# EAGLE library part XCV800ES_FG676 (library xilinx-xcv)
xcv800es_fg676 edit this description Auto generated by make-symbol-device-package-bsdl.ulp Rev. 26 Source: xcv800es_fg676.bsd
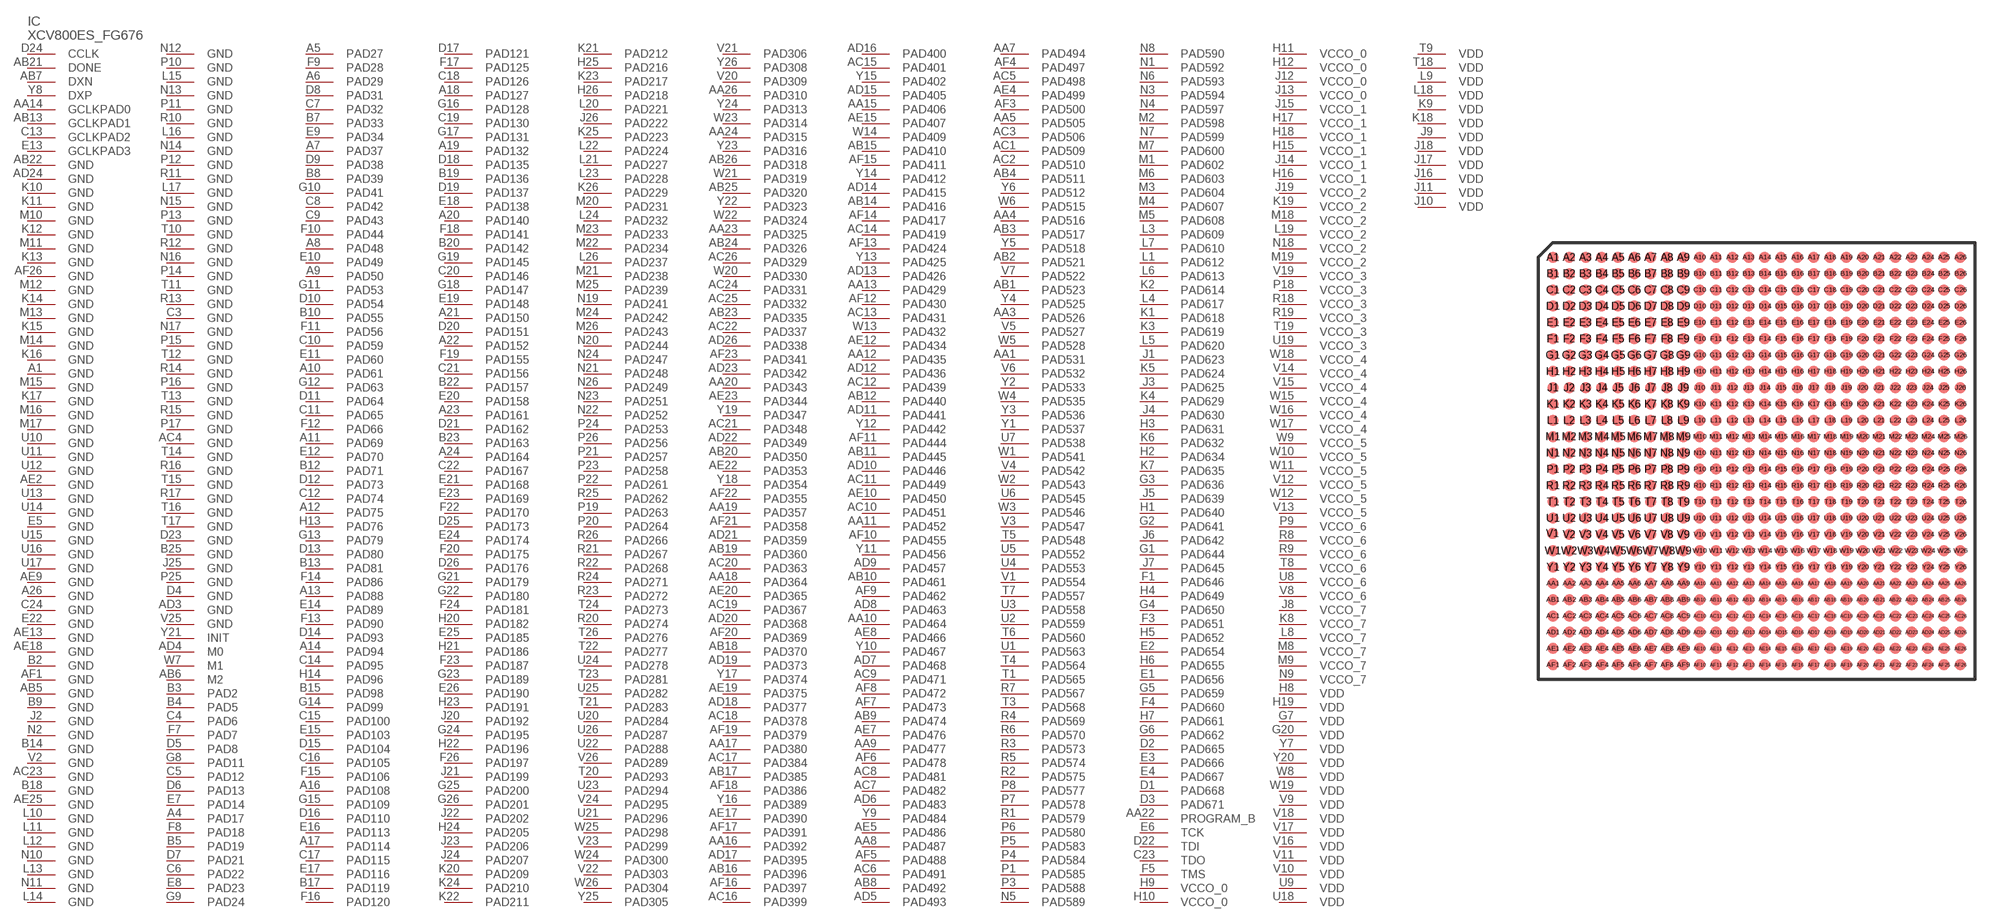
[diagram p134: symbol with the pads of FG676; footprint FG676]

Designator prefix IC

## XCV800ES_FG676 (OC_FARNELL: unknown; OC_NEWARK: unknown)  [FG676]
A1  GND  pwr
A4  PAD17
A5  PAD27
A6  PAD29
A7  PAD37
A8  PAD48
A9  PAD50
A10  PAD61
A11  PAD69
A12  PAD75
A13  PAD88
A14  PAD94
A16  PAD108
A17  PAD114
A18  PAD127
A19  PAD132
A20  PAD140
A21  PAD150
A22  PAD152
A23  PAD161
A24  PAD164
A26  GND  pwr
AA1  PAD531
AA3  PAD526
AA4  PAD516
AA5  PAD505
AA7  PAD494
AA8  PAD487
AA9  PAD477
AA10  PAD464
AA11  PAD452
AA12  PAD435
AA13  PAD429
AA14  GCLKPAD0  in
AA15  PAD406
AA16  PAD392
AA17  PAD380
AA18  PAD364
AA19  PAD357
AA20  PAD343
AA22  PROGRAM_B  in
AA23  PAD325
AA24  PAD315
AA26  PAD310
AB1  PAD523
AB2  PAD521
AB3  PAD517
AB4  PAD511
AB5  GND  pwr
AB6  M2  in
AB7  DXN  pas
AB8  PAD492
AB9  PAD474
AB10  PAD461
AB11  PAD445
AB12  PAD440
AB13  GCLKPAD1  in
AB14  PAD416
AB15  PAD410
AB16  PAD396
AB17  PAD385
AB18  PAD370
AB19  PAD360
AB20  PAD350
AB21  DONE
AB22  GND  pwr
AB23  PAD335
AB24  PAD326
AB25  PAD320
AB26  PAD318
AC1  PAD509
AC2  PAD510
AC3  PAD506
AC4  GND  pwr
AC5  PAD498
AC6  PAD491
AC7  PAD482
AC8  PAD481
AC9  PAD471
AC10  PAD451
AC11  PAD449
AC12  PAD439
AC13  PAD431
AC14  PAD419
AC15  PAD401
AC16  PAD399
AC17  PAD384
AC18  PAD378
AC19  PAD367
AC20  PAD363
AC21  PAD348
AC22  PAD337
AC23  GND  pwr
AC24  PAD331
AC25  PAD332
AC26  PAD329
AD3  GND  pwr
AD4  M0  in
AD5  PAD493
AD6  PAD483
AD7  PAD468
AD8  PAD463
AD9  PAD457
AD10  PAD446
AD11  PAD441
AD12  PAD436
AD13  PAD426
AD14  PAD415
AD15  PAD405
AD16  PAD400
AD17  PAD395
AD18  PAD377
AD19  PAD373
AD20  PAD368
AD21  PAD359
AD22  PAD349
AD23  PAD342
AD24  GND  pwr
AD26  PAD338
AE2  GND  pwr
AE4  PAD499
AE5  PAD486
AE7  PAD476
AE8  PAD466
AE9  GND  pwr
AE10  PAD450
AE12  PAD434
AE13  GND  pwr
AE15  PAD407
AE17  PAD390
AE18  GND  pwr
AE19  PAD375
AE20  PAD365
AE22  PAD353
AE23  PAD344
AE25  GND  pwr
AF1  GND  pwr
AF3  PAD500
AF4  PAD497
AF5  PAD488
AF6  PAD478
AF7  PAD473
AF8  PAD472
AF9  PAD462
AF10  PAD455
AF11  PAD444
AF12  PAD430
AF13  PAD424
AF14  PAD417
AF15  PAD411
AF16  PAD397
AF17  PAD391
AF18  PAD386
AF19  PAD379
AF20  PAD369
AF21  PAD358
AF22  PAD355
AF23  PAD341
AF26  GND  pwr
B2  GND  pwr
B3  PAD2
B4  PAD5
B5  PAD19
B7  PAD33
B8  PAD39
B9  GND  pwr
B10  PAD55
B12  PAD71
B13  PAD81
B14  GND  pwr
B15  PAD98
B17  PAD119
B18  GND  pwr
B19  PAD136
B20  PAD142
B22  PAD157
B23  PAD163
B25  GND  pwr
C3  GND  pwr
C4  PAD6
C5  PAD12
C6  PAD22
C7  PAD32
C8  PAD42
C9  PAD43
C10  PAD59
C11  PAD65
C12  PAD74
C13  GCLKPAD2  in
C14  PAD95
C15  PAD100
C16  PAD105
C17  PAD115
C18  PAD126
C19  PAD130
C20  PAD146
C21  PAD156
C22  PAD167
C23  TDO  out
C24  GND  pwr
D1  PAD668
D2  PAD665
D3  PAD671
D4  GND  pwr
D5  PAD8
D6  PAD13
D7  PAD21
D8  PAD31
D9  PAD38
D10  PAD54
D11  PAD64
D12  PAD73
D13  PAD80
D14  PAD93
D15  PAD104
D16  PAD110
D17  PAD121
D18  PAD135
D19  PAD137
D20  PAD151
D21  PAD162
D22  TDI  in
D23  GND  pwr
D24  CCLK
D25  PAD173
D26  PAD176
E1  PAD656
E2  PAD654
E3  PAD666
E4  PAD667
E5  GND  pwr
E6  TCK  in
E7  PAD14
E8  PAD23
E9  PAD34
E10  PAD49
E11  PAD60
E12  PAD70
E13  GCLKPAD3  in
E14  PAD89
E15  PAD103
E16  PAD113
E17  PAD116
E18  PAD138
E19  PAD148
E20  PAD158
E21  PAD168
E22  GND  pwr
E23  PAD169
E24  PAD174
E25  PAD185
E26  PAD190
F1  PAD646
F3  PAD651
F4  PAD660
F5  TMS  in
F7  PAD7
F8  PAD18
F9  PAD28
F10  PAD44
F11  PAD56
F12  PAD66
F13  PAD90
F14  PAD86
F15  PAD106
F16  PAD120
F17  PAD125
F18  PAD141
F19  PAD155
F20  PAD175
F22  PAD170
F23  PAD187
F24  PAD181
F26  PAD197
G1  PAD644
G2  PAD641
G3  PAD636
G4  PAD650
G5  PAD659
G6  PAD662
G7  VDD  pwr
G8  PAD11
G9  PAD24
G10  PAD41
G11  PAD53
G12  PAD63
G13  PAD79
G14  PAD99
G15  PAD109
G16  PAD128
G17  PAD131
G18  PAD147
G19  PAD145
G20  VDD  pwr
G21  PAD179
G22  PAD180
G23  PAD189
G24  PAD195
G25  PAD200
G26  PAD201
H1  PAD640
H2  PAD634
H3  PAD631
H4  PAD649
H5  PAD652
H6  PAD655
H7  PAD661
H8  VDD  pwr
H9  VCCO_0  pwr
H10  VCCO_0  pwr
H11  VCCO_0  pwr
H12  VCCO_0  pwr
H13  PAD76
H14  PAD96
H15  VCCO_1  pwr
H16  VCCO_1  pwr
H17  VCCO_1  pwr
H18  VCCO_1  pwr
H19  VDD  pwr
H20  PAD182
H21  PAD186
H22  PAD196
H23  PAD191
H24  PAD205
H25  PAD216
H26  PAD218
J1  PAD623
J2  GND  pwr
J3  PAD625
J4  PAD630
J5  PAD639
J6  PAD642
J7  PAD645
J8  VCCO_7  pwr
J9  VDD  pwr
J10  VDD  pwr
J11  VDD  pwr
J12  VCCO_0  pwr
J13  VCCO_0  pwr
J14  VCCO_1  pwr
J15  VCCO_1  pwr
J16  VDD  pwr
J17  VDD  pwr
J18  VDD  pwr
J19  VCCO_2  pwr
J20  PAD192
J21  PAD199
J22  PAD202
J23  PAD206
J24  PAD207
J25  GND  pwr
J26  PAD222
K1  PAD618
K2  PAD614
K3  PAD619
K4  PAD629
K5  PAD624
K6  PAD632
K7  PAD635
K8  VCCO_7  pwr
K9  VDD  pwr
K10  GND  pwr
K11  GND  pwr
K12  GND  pwr
K13  GND  pwr
K14  GND  pwr
K15  GND  pwr
K16  GND  pwr
K17  GND  pwr
K18  VDD  pwr
K19  VCCO_2  pwr
K20  PAD209
K21  PAD212
K22  PAD211
K23  PAD217
K24  PAD210
K25  PAD223
K26  PAD229
L1  PAD612
L3  PAD609
L4  PAD617
L5  PAD620
L6  PAD613
L7  PAD610
L8  VCCO_7  pwr
L9  VDD  pwr
L10  GND  pwr
L11  GND  pwr
L12  GND  pwr
L13  GND  pwr
L14  GND  pwr
L15  GND  pwr
L16  GND  pwr
L17  GND  pwr
L18  VDD  pwr
L19  VCCO_2  pwr
L20  PAD221
L21  PAD227
L22  PAD224
L23  PAD228
L24  PAD232
L26  PAD237
M1  PAD602
M2  PAD598
M3  PAD604
M4  PAD607
M5  PAD608
M6  PAD603
M7  PAD600
M8  VCCO_7  pwr
M9  VCCO_7  pwr
M10  GND  pwr
M11  GND  pwr
M12  GND  pwr
M13  GND  pwr
M14  GND  pwr
M15  GND  pwr
M16  GND  pwr
M17  GND  pwr
M18  VCCO_2  pwr
M19  VCCO_2  pwr
M20  PAD231
M21  PAD238
M22  PAD234
M23  PAD233
M24  PAD242
M25  PAD239
M26  PAD243
N1  PAD592
N2  GND  pwr
N3  PAD594
N4  PAD597
N5  PAD589
N6  PAD593
N7  PAD599
N8  PAD590
N9  VCCO_7  pwr
N10  GND  pwr
N11  GND  pwr
N12  GND  pwr
N13  GND  pwr
N14  GND  pwr
N15  GND  pwr
N16  GND  pwr
N17  GND  pwr
N18  VCCO_2  pwr
N19  PAD241
N20  PAD244
N21  PAD248
N22  PAD252
N23  PAD251
N24  PAD247
N26  PAD249
P1  PAD585
P3  PAD588
P4  PAD584
P5  PAD583
P6  PAD580
P7  PAD578
P8  PAD577
P9  VCCO_6  pwr
P10  GND  pwr
P11  GND  pwr
P12  GND  pwr
P13  GND  pwr
P14  GND  pwr
P15  GND  pwr
P16  GND  pwr
P17  GND  pwr
P18  VCCO_3  pwr
P19  PAD263
P20  PAD264
P21  PAD257
P22  PAD261
P23  PAD258
P24  PAD253
P25  GND  pwr
P26  PAD256
R1  PAD579
R2  PAD575
R3  PAD573
R4  PAD569
R5  PAD574
R6  PAD570
R7  PAD567
R8  VCCO_6  pwr
R9  VCCO_6  pwr
R10  GND  pwr
R11  GND  pwr
R12  GND  pwr
R13  GND  pwr
R14  GND  pwr
R15  GND  pwr
R16  GND  pwr
R17  GND  pwr
R18  VCCO_3  pwr
R19  VCCO_3  pwr
R20  PAD274
R21  PAD267
R22  PAD268
R23  PAD272
R24  PAD271
R25  PAD262
R26  PAD266
T1  PAD565
T3  PAD568
T4  PAD564
T5  PAD548
T6  PAD560
T7  PAD557
T8  VCCO_6  pwr
T9  VDD  pwr
T10  GND  pwr
T11  GND  pwr
T12  GND  pwr
T13  GND  pwr
T14  GND  pwr
T15  GND  pwr
T16  GND  pwr
T17  GND  pwr
T18  VDD  pwr
T19  VCCO_3  pwr
T20  PAD293
T21  PAD283
T22  PAD277
T23  PAD281
T24  PAD273
T26  PAD276
U1  PAD563
U2  PAD559
U3  PAD558
U4  PAD553
U5  PAD552
U6  PAD545
U7  PAD538
U8  VCCO_6  pwr
U9  VDD  pwr
U10  GND  pwr
U11  GND  pwr
U12  GND  pwr
U13  GND  pwr
U14  GND  pwr
U15  GND  pwr
U16  GND  pwr
U17  GND  pwr
U18  VDD  pwr
U19  VCCO_3  pwr
U20  PAD284
U21  PAD296
U22  PAD288
U23  PAD294
U24  PAD278
U25  PAD282
U26  PAD287
V1  PAD554
V2  GND  pwr
V3  PAD547
V4  PAD542
V5  PAD527
V6  PAD532
V7  PAD522
V8  VCCO_6  pwr
V9  VDD  pwr
V10  VDD  pwr
V11  VDD  pwr
V12  VCCO_5  pwr
V13  VCCO_5  pwr
V14  VCCO_4  pwr
V15  VCCO_4  pwr
V16  VDD  pwr
V17  VDD  pwr
V18  VDD  pwr
V19  VCCO_3  pwr
V20  PAD309
V21  PAD306
V22  PAD303
V23  PAD299
V24  PAD295
V25  GND  pwr
V26  PAD289
W1  PAD541
W2  PAD543
W3  PAD546
W4  PAD535
W5  PAD528
W6  PAD515
W7  M1  in
W8  VDD  pwr
W9  VCCO_5  pwr
W10  VCCO_5  pwr
W11  VCCO_5  pwr
W12  VCCO_5  pwr
W13  PAD432
W14  PAD409
W15  VCCO_4  pwr
W16  VCCO_4  pwr
W17  VCCO_4  pwr
W18  VCCO_4  pwr
W19  VDD  pwr
W20  PAD330
W21  PAD319
W22  PAD324
W23  PAD314
W24  PAD300
W25  PAD298
W26  PAD304
Y1  PAD537
Y2  PAD533
Y3  PAD536
Y4  PAD525
Y5  PAD518
Y6  PAD512
Y7  VDD  pwr
Y8  DXP  pas
Y9  PAD484
Y10  PAD467
Y11  PAD456
Y12  PAD442
Y13  PAD425
Y14  PAD412
Y15  PAD402
Y16  PAD389
Y17  PAD374
Y18  PAD354
Y19  PAD347
Y20  VDD  pwr
Y21  INIT
Y22  PAD323
Y23  PAD316
Y24  PAD313
Y25  PAD305
Y26  PAD308

## Footprint FG676 (pad centres in mm)
xcv400_fg676 edit this description Auto generated by make-symbol-device-package-bsdl.ulp Rev. 26 Source: xcv400_fg676.bsd
smd 0.7 x 0.7: A1 -12.5,12.5; A2 -11.5,12.5; A3 -10.5,12.5; A4 -9.5,12.5; A5 -8.5,12.5; A6 -7.5,12.5; A7 -6.5,12.5; A8 -5.5,12.5; A9 -4.5,12.5; A10 -3.5,12.5; A11 -2.5,12.5; A12 -1.5,12.5; A13 -0.5,12.5; A14 0.5,12.5; A15 1.5,12.5; A16 2.5,12.5; A17 3.5,12.5; A18 4.5,12.5; A19 5.5,12.5; A20 6.5,12.5; A21 7.5,12.5; A22 8.5,12.5; A23 9.5,12.5; A24 10.5,12.5; A25 11.5,12.5; A26 12.5,12.5; AA1 -12.5,-7.5; AA2 -11.5,-7.5; AA3 -10.5,-7.5; AA4 -9.5,-7.5; AA5 -8.5,-7.5; AA6 -7.5,-7.5; AA7 -6.5,-7.5; AA8 -5.5,-7.5; AA9 -4.5,-7.5; AA10 -3.5,-7.5; AA11 -2.5,-7.5; AA12 -1.5,-7.5; AA13 -0.5,-7.5; AA14 0.5,-7.5; AA15 1.5,-7.5; AA16 2.5,-7.5; AA17 3.5,-7.5; AA18 4.5,-7.5; AA19 5.5,-7.5; AA20 6.5,-7.5; AA21 7.5,-7.5; AA22 8.5,-7.5; AA23 9.5,-7.5; AA24 10.5,-7.5; AA25 11.5,-7.5; AA26 12.5,-7.5; AB1 -12.5,-8.5; AB2 -11.5,-8.5; AB3 -10.5,-8.5; AB4 -9.5,-8.5; AB5 -8.5,-8.5; AB6 -7.5,-8.5; AB7 -6.5,-8.5; AB8 -5.5,-8.5; AB9 -4.5,-8.5; AB10 -3.5,-8.5; AB11 -2.5,-8.5; AB12 -1.5,-8.5; AB13 -0.5,-8.5; AB14 0.5,-8.5; AB15 1.5,-8.5; AB16 2.5,-8.5; AB17 3.5,-8.5; AB18 4.5,-8.5; AB19 5.5,-8.5; AB20 6.5,-8.5; AB21 7.5,-8.5; AB22 8.5,-8.5; AB23 9.5,-8.5; AB24 10.5,-8.5; AB25 11.5,-8.5; AB26 12.5,-8.5; AC1 -12.5,-9.5; AC2 -11.5,-9.5; AC3 -10.5,-9.5; AC4 -9.5,-9.5; AC5 -8.5,-9.5; AC6 -7.5,-9.5; AC7 -6.5,-9.5; AC8 -5.5,-9.5; AC9 -4.5,-9.5; AC10 -3.5,-9.5; AC11 -2.5,-9.5; AC12 -1.5,-9.5; AC13 -0.5,-9.5; AC14 0.5,-9.5; AC15 1.5,-9.5; AC16 2.5,-9.5; AC17 3.5,-9.5; AC18 4.5,-9.5; AC19 5.5,-9.5; AC20 6.5,-9.5; AC21 7.5,-9.5; AC22 8.5,-9.5; AC23 9.5,-9.5; AC24 10.5,-9.5; AC25 11.5,-9.5; AC26 12.5,-9.5; AD1 -12.5,-10.5; AD2 -11.5,-10.5; AD3 -10.5,-10.5; AD4 -9.5,-10.5; AD5 -8.5,-10.5; AD6 -7.5,-10.5; AD7 -6.5,-10.5; AD8 -5.5,-10.5; AD9 -4.5,-10.5; AD10 -3.5,-10.5; AD11 -2.5,-10.5; AD12 -1.5,-10.5; AD13 -0.5,-10.5; AD14 0.5,-10.5; AD15 1.5,-10.5; AD16 2.5,-10.5; AD17 3.5,-10.5; AD18 4.5,-10.5; AD19 5.5,-10.5; AD20 6.5,-10.5; AD21 7.5,-10.5; AD22 8.5,-10.5; AD23 9.5,-10.5; AD24 10.5,-10.5; AD25 11.5,-10.5; AD26 12.5,-10.5; AE1 -12.5,-11.5; AE2 -11.5,-11.5; AE3 -10.5,-11.5; AE4 -9.5,-11.5; AE5 -8.5,-11.5; AE6 -7.5,-11.5; AE7 -6.5,-11.5; AE8 -5.5,-11.5; AE9 -4.5,-11.5; AE10 -3.5,-11.5; AE11 -2.5,-11.5; AE12 -1.5,-11.5; AE13 -0.5,-11.5; AE14 0.5,-11.5; AE15 1.5,-11.5; AE16 2.5,-11.5; AE17 3.5,-11.5; AE18 4.5,-11.5; AE19 5.5,-11.5; AE20 6.5,-11.5; AE21 7.5,-11.5; AE22 8.5,-11.5; AE23 9.5,-11.5; AE24 10.5,-11.5; AE25 11.5,-11.5; AE26 12.5,-11.5; AF1 -12.5,-12.5; AF2 -11.5,-12.5; AF3 -10.5,-12.5; AF4 -9.5,-12.5; AF5 -8.5,-12.5; AF6 -7.5,-12.5; AF7 -6.5,-12.5; AF8 -5.5,-12.5; AF9 -4.5,-12.5; AF10 -3.5,-12.5; AF11 -2.5,-12.5; AF12 -1.5,-12.5; AF13 -0.5,-12.5; AF14 0.5,-12.5; AF15 1.5,-12.5; AF16 2.5,-12.5; AF17 3.5,-12.5; AF18 4.5,-12.5; AF19 5.5,-12.5; AF20 6.5,-12.5; AF21 7.5,-12.5; AF22 8.5,-12.5; AF23 9.5,-12.5; AF24 10.5,-12.5; AF25 11.5,-12.5; AF26 12.5,-12.5; B1 -12.5,11.5; B2 -11.5,11.5; B3 -10.5,11.5; B4 -9.5,11.5; B5 -8.5,11.5; B6 -7.5,11.5; B7 -6.5,11.5; B8 -5.5,11.5; B9 -4.5,11.5; B10 -3.5,11.5; B11 -2.5,11.5; B12 -1.5,11.5; B13 -0.5,11.5; B14 0.5,11.5; B15 1.5,11.5; B16 2.5,11.5; B17 3.5,11.5; B18 4.5,11.5; B19 5.5,11.5; B20 6.5,11.5; B21 7.5,11.5; B22 8.5,11.5; B23 9.5,11.5; B24 10.5,11.5; B25 11.5,11.5; B26 12.5,11.5; C1 -12.5,10.5; C2 -11.5,10.5; C3 -10.5,10.5; C4 -9.5,10.5; C5 -8.5,10.5; C6 -7.5,10.5; C7 -6.5,10.5; C8 -5.5,10.5; C9 -4.5,10.5; C10 -3.5,10.5; C11 -2.5,10.5; C12 -1.5,10.5; C13 -0.5,10.5; C14 0.5,10.5; C15 1.5,10.5; C16 2.5,10.5; C17 3.5,10.5; C18 4.5,10.5; C19 5.5,10.5; C20 6.5,10.5; C21 7.5,10.5; C22 8.5,10.5; C23 9.5,10.5; C24 10.5,10.5; C25 11.5,10.5; C26 12.5,10.5; D1 -12.5,9.5; D2 -11.5,9.5; D3 -10.5,9.5; D4 -9.5,9.5; D5 -8.5,9.5; D6 -7.5,9.5; D7 -6.5,9.5; D8 -5.5,9.5; D9 -4.5,9.5; D10 -3.5,9.5; D11 -2.5,9.5; D12 -1.5,9.5; D13 -0.5,9.5; D14 0.5,9.5; D15 1.5,9.5; D16 2.5,9.5; D17 3.5,9.5; D18 4.5,9.5; D19 5.5,9.5; D20 6.5,9.5; D21 7.5,9.5; D22 8.5,9.5; D23 9.5,9.5; D24 10.5,9.5; D25 11.5,9.5; D26 12.5,9.5; E1 -12.5,8.5; E2 -11.5,8.5; E3 -10.5,8.5; E4 -9.5,8.5; E5 -8.5,8.5; E6 -7.5,8.5; E7 -6.5,8.5; E8 -5.5,8.5; E9 -4.5,8.5; E10 -3.5,8.5; E11 -2.5,8.5; E12 -1.5,8.5; E13 -0.5,8.5; E14 0.5,8.5; E15 1.5,8.5; E16 2.5,8.5; E17 3.5,8.5; E18 4.5,8.5; E19 5.5,8.5; E20 6.5,8.5; E21 7.5,8.5; E22 8.5,8.5; E23 9.5,8.5; E24 10.5,8.5; E25 11.5,8.5; E26 12.5,8.5; F1 -12.5,7.5; F2 -11.5,7.5; F3 -10.5,7.5; F4 -9.5,7.5; F5 -8.5,7.5; F6 -7.5,7.5; F7 -6.5,7.5; F8 -5.5,7.5; F9 -4.5,7.5; F10 -3.5,7.5; F11 -2.5,7.5; F12 -1.5,7.5; F13 -0.5,7.5; F14 0.5,7.5; F15 1.5,7.5; F16 2.5,7.5; F17 3.5,7.5; F18 4.5,7.5; F19 5.5,7.5; F20 6.5,7.5; F21 7.5,7.5; F22 8.5,7.5; F23 9.5,7.5; F24 10.5,7.5; F25 11.5,7.5; F26 12.5,7.5; G1 -12.5,6.5; G2 -11.5,6.5; G3 -10.5,6.5; G4 -9.5,6.5; G5 -8.5,6.5; G6 -7.5,6.5; G7 -6.5,6.5; G8 -5.5,6.5; G9 -4.5,6.5; G10 -3.5,6.5; G11 -2.5,6.5; G12 -1.5,6.5; G13 -0.5,6.5; G14 0.5,6.5; G15 1.5,6.5; G16 2.5,6.5; G17 3.5,6.5; G18 4.5,6.5; G19 5.5,6.5; G20 6.5,6.5; G21 7.5,6.5; G22 8.5,6.5; G23 9.5,6.5; G24 10.5,6.5; G25 11.5,6.5; G26 12.5,6.5; H1 -12.5,5.5; H2 -11.5,5.5; H3 -10.5,5.5; H4 -9.5,5.5; H5 -8.5,5.5; H6 -7.5,5.5; H7 -6.5,5.5; H8 -5.5,5.5; H9 -4.5,5.5; H10 -3.5,5.5; H11 -2.5,5.5; H12 -1.5,5.5; H13 -0.5,5.5; H14 0.5,5.5; H15 1.5,5.5; H16 2.5,5.5; H17 3.5,5.5; H18 4.5,5.5; H19 5.5,5.5; H20 6.5,5.5; H21 7.5,5.5; H22 8.5,5.5; H23 9.5,5.5; H24 10.5,5.5; H25 11.5,5.5; H26 12.5,5.5; J1 -12.5,4.5; J2 -11.5,4.5; J3 -10.5,4.5; J4 -9.5,4.5; J5 -8.5,4.5; J6 -7.5,4.5; J7 -6.5,4.5; J8 -5.5,4.5; J9 -4.5,4.5; J10 -3.5,4.5; J11 -2.5,4.5; J12 -1.5,4.5; J13 -0.5,4.5; J14 0.5,4.5; J15 1.5,4.5; J16 2.5,4.5; J17 3.5,4.5; J18 4.5,4.5; J19 5.5,4.5; J20 6.5,4.5; J21 7.5,4.5; J22 8.5,4.5; J23 9.5,4.5; J24 10.5,4.5; J25 11.5,4.5; J26 12.5,4.5; K1 -12.5,3.5; K2 -11.5,3.5; K3 -10.5,3.5; K4 -9.5,3.5; K5 -8.5,3.5; K6 -7.5,3.5; K7 -6.5,3.5; K8 -5.5,3.5; K9 -4.5,3.5; K10 -3.5,3.5; K11 -2.5,3.5; K12 -1.5,3.5; K13 -0.5,3.5; K14 0.5,3.5; K15 1.5,3.5; K16 2.5,3.5; K17 3.5,3.5; K18 4.5,3.5; K19 5.5,3.5; K20 6.5,3.5; K21 7.5,3.5; K22 8.5,3.5; K23 9.5,3.5; K24 10.5,3.5; K25 11.5,3.5; K26 12.5,3.5; L1 -12.5,2.5; L2 -11.5,2.5; L3 -10.5,2.5; L4 -9.5,2.5; L5 -8.5,2.5; L6 -7.5,2.5; L7 -6.5,2.5; L8 -5.5,2.5; L9 -4.5,2.5; L10 -3.5,2.5; L11 -2.5,2.5; L12 -1.5,2.5; L13 -0.5,2.5; L14 0.5,2.5; L15 1.5,2.5; L16 2.5,2.5; L17 3.5,2.5; L18 4.5,2.5; L19 5.5,2.5; L20 6.5,2.5; L21 7.5,2.5; L22 8.5,2.5; L23 9.5,2.5; L24 10.5,2.5; L25 11.5,2.5; L26 12.5,2.5; M1 -12.5,1.5; M2 -11.5,1.5; M3 -10.5,1.5; M4 -9.5,1.5; M5 -8.5,1.5; M6 -7.5,1.5; M7 -6.5,1.5; M8 -5.5,1.5; M9 -4.5,1.5; M10 -3.5,1.5; M11 -2.5,1.5; M12 -1.5,1.5; M13 -0.5,1.5; M14 0.5,1.5; M15 1.5,1.5; M16 2.5,1.5; M17 3.5,1.5; M18 4.5,1.5; M19 5.5,1.5; M20 6.5,1.5; M21 7.5,1.5; M22 8.5,1.5; M23 9.5,1.5; M24 10.5,1.5; M25 11.5,1.5; M26 12.5,1.5; N1 -12.5,0.5; N2 -11.5,0.5; N3 -10.5,0.5; N4 -9.5,0.5; N5 -8.5,0.5; N6 -7.5,0.5; N7 -6.5,0.5; N8 -5.5,0.5; N9 -4.5,0.5; N10 -3.5,0.5; N11 -2.5,0.5; N12 -1.5,0.5; N13 -0.5,0.5; N14 0.5,0.5; N15 1.5,0.5; N16 2.5,0.5; N17 3.5,0.5; N18 4.5,0.5; N19 5.5,0.5; N20 6.5,0.5; N21 7.5,0.5; N22 8.5,0.5; N23 9.5,0.5; N24 10.5,0.5; N25 11.5,0.5; N26 12.5,0.5; P1 -12.5,-0.5; P2 -11.5,-0.5; P3 -10.5,-0.5; P4 -9.5,-0.5; P5 -8.5,-0.5; P6 -7.5,-0.5; P7 -6.5,-0.5; P8 -5.5,-0.5; P9 -4.5,-0.5; P10 -3.5,-0.5; P11 -2.5,-0.5; P12 -1.5,-0.5; P13 -0.5,-0.5; P14 0.5,-0.5; P15 1.5,-0.5; P16 2.5,-0.5; P17 3.5,-0.5; P18 4.5,-0.5; P19 5.5,-0.5; P20 6.5,-0.5; P21 7.5,-0.5; P22 8.5,-0.5; P23 9.5,-0.5; P24 10.5,-0.5; P25 11.5,-0.5; P26 12.5,-0.5; R1 -12.5,-1.5; R2 -11.5,-1.5; R3 -10.5,-1.5; R4 -9.5,-1.5; R5 -8.5,-1.5; R6 -7.5,-1.5; R7 -6.5,-1.5; R8 -5.5,-1.5; R9 -4.5,-1.5; R10 -3.5,-1.5; R11 -2.5,-1.5; R12 -1.5,-1.5; R13 -0.5,-1.5; R14 0.5,-1.5; R15 1.5,-1.5; R16 2.5,-1.5; R17 3.5,-1.5; R18 4.5,-1.5; R19 5.5,-1.5; R20 6.5,-1.5; R21 7.5,-1.5; R22 8.5,-1.5; R23 9.5,-1.5; R24 10.5,-1.5; R25 11.5,-1.5; R26 12.5,-1.5; T1 -12.5,-2.5; T2 -11.5,-2.5; T3 -10.5,-2.5; T4 -9.5,-2.5; T5 -8.5,-2.5; T6 -7.5,-2.5; T7 -6.5,-2.5; T8 -5.5,-2.5; T9 -4.5,-2.5; T10 -3.5,-2.5; T11 -2.5,-2.5; T12 -1.5,-2.5; T13 -0.5,-2.5; T14 0.5,-2.5; T15 1.5,-2.5; T16 2.5,-2.5; T17 3.5,-2.5; T18 4.5,-2.5; T19 5.5,-2.5; T20 6.5,-2.5; T21 7.5,-2.5; T22 8.5,-2.5; T23 9.5,-2.5; T24 10.5,-2.5; T25 11.5,-2.5; T26 12.5,-2.5; U1 -12.5,-3.5; U2 -11.5,-3.5; U3 -10.5,-3.5; U4 -9.5,-3.5; U5 -8.5,-3.5; U6 -7.5,-3.5; U7 -6.5,-3.5; U8 -5.5,-3.5; U9 -4.5,-3.5; U10 -3.5,-3.5; U11 -2.5,-3.5; U12 -1.5,-3.5; U13 -0.5,-3.5; U14 0.5,-3.5; U15 1.5,-3.5; U16 2.5,-3.5; U17 3.5,-3.5; U18 4.5,-3.5; U19 5.5,-3.5; U20 6.5,-3.5; U21 7.5,-3.5; U22 8.5,-3.5; U23 9.5,-3.5; U24 10.5,-3.5; U25 11.5,-3.5; U26 12.5,-3.5; V1 -12.527,-4.431; V2 -11.5,-4.5; V3 -10.5,-4.5; V4 -9.5,-4.5; V5 -8.5,-4.5; V6 -7.5,-4.5; V7 -6.5,-4.5; V8 -5.5,-4.5; V9 -4.5,-4.5; V10 -3.5,-4.5; V11 -2.5,-4.5; V12 -1.5,-4.5; V13 -0.5,-4.5; V14 0.5,-4.5; V15 1.5,-4.5; V16 2.5,-4.5; V17 3.5,-4.5; V18 4.5,-4.5; V19 5.5,-4.5; V20 6.5,-4.5; V21 7.5,-4.5; V22 8.5,-4.5; V23 9.5,-4.5; V24 10.5,-4.5; V25 11.5,-4.5; V26 12.5,-4.5; W1 -12.5,-5.5; W2 -11.5,-5.5; W3 -10.5,-5.5; W4 -9.5,-5.5; W5 -8.5,-5.5; W6 -7.5,-5.5; W7 -6.5,-5.5; W8 -5.5,-5.5; W9 -4.5,-5.5; W10 -3.5,-5.5; W11 -2.5,-5.5; W12 -1.5,-5.5; W13 -0.5,-5.5; W14 0.5,-5.5; W15 1.5,-5.5; W16 2.5,-5.5; W17 3.5,-5.5; W18 4.5,-5.5; W19 5.5,-5.5; W20 6.5,-5.5; W21 7.5,-5.5; W22 8.5,-5.5; W23 9.5,-5.5; W24 10.5,-5.5; W25 11.5,-5.5; W26 12.5,-5.5; Y1 -12.5,-6.5; Y2 -11.5,-6.5; Y3 -10.5,-6.5; Y4 -9.5,-6.5; Y5 -8.5,-6.5; Y6 -7.5,-6.5; Y7 -6.5,-6.5; Y8 -5.5,-6.5; Y9 -4.5,-6.5; Y10 -3.5,-6.5; Y11 -2.5,-6.5; Y12 -1.5,-6.5; Y13 -0.5,-6.5; Y14 0.5,-6.5; Y15 1.5,-6.5; Y16 2.5,-6.5; Y17 3.5,-6.5; Y18 4.5,-6.5; Y19 5.5,-6.5; Y20 6.5,-6.5; Y21 7.5,-6.5; Y22 8.5,-6.5; Y23 9.5,-6.5; Y24 10.5,-6.5; Y25 11.5,-6.5; Y26 12.5,-6.5